# EAGLE library part LTMM-104-02-F-D (library my)
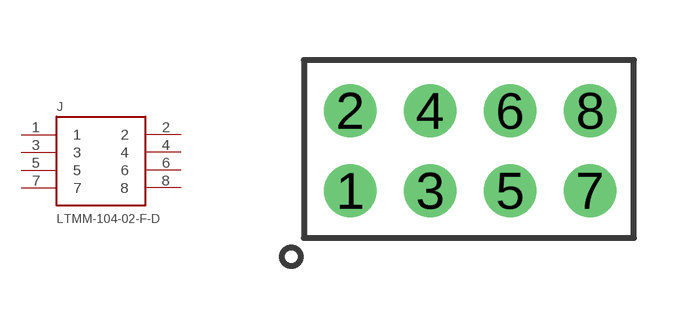
[diagram p1: symbol with the pads of LTMM-104-02-F-D; footprint LTMM-104-02-F-D]

Designator prefix J

## LTMM-104-02-F-D  [LTMM-104-02-F-D]
1  1
2  2
3  3
4  4
5  5
6  6
7  7
8  8

## Footprint LTMM-104-02-F-D (pad centres in mm)
LTMM ASSEMBLY, 20PINS.
drill 0.813 pad 1.219: 1 -2.967,-1.048; 2 -2.967,0.953; 3 -0.968,-1.048; 4 -0.968,0.953; 5 1.032,-1.048; 6 1.032,0.953; 7 3.033,-1.048; 8 3.033,0.953